# EAGLE library part ARDUINO_DUE_SHIELD_SIMPLE (library m1dst)
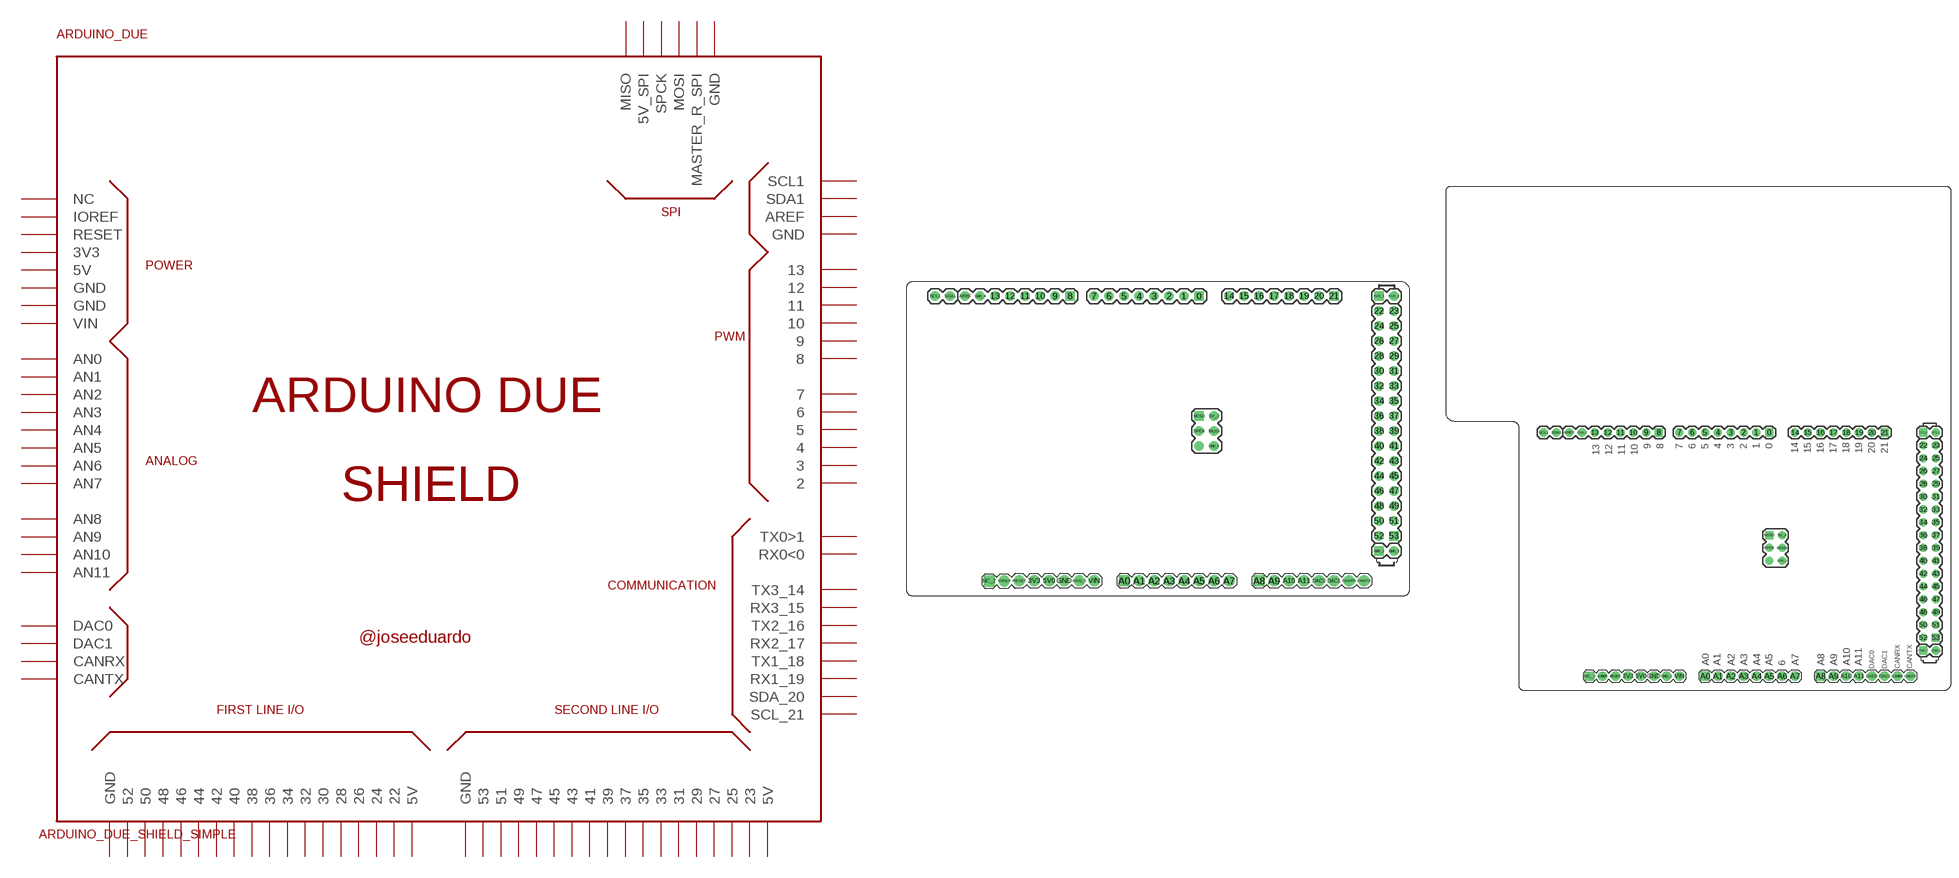
[diagram p3: symbol with the pads of ARDUINO_DUE_SHIELD_SIMPLE; footprints ARDUINO_DUE_SHIELD_SIMPLE, ARDUINO_DUE_SHIELD_SIMPLE_100MM]

Designator prefix ARDUINO_DUE

## ARDUINO_DUE_SHIELD_SIMPLE  [ARDUINO_DUE_SHIELD_SIMPLE]
0  RX0<0
1  TX0>1
2  2
3  3
3V3  3V3
4  4
5  5
5V0  5V
5V0_1  5V
5V0_2  5V
5V_2  5V_SPI
6  6
7  7
8  8
9  9
10  10
11  11
12  12
13  13
14  TX3_14
15  RX3_15
16  TX2_16
17  RX2_17
18  TX1_18
19  RX1_19
20  SDA_20
21  SCL_21
22  22
23  23
24  24
25  25
26  26
27  27
28  28
29  29
30  30
31  31
32  32
33  33
34  34
35  35
36  36
37  37
38  38
39  39
40  40
41  41
42  42
43  43
44  44
45  45
46  46
47  47
48  48
49  49
50  50
51  51
52  52
53  53
A0  AN0
A1  AN1
A2  AN2
A3  AN3
A4  AN4
A5  AN5
A6  AN6
A7  AN7
A8  AN8
A9  AN9
A10  AN10
A11  AN11
AREF  AREF
CANRX  CANRX
CANTX  CANTX
DAC0  DAC0
DAC1  DAC1
GND  GND
GND_1  GND
GND_2  GND
GND_3  GND
GND_4  GND
GND_5  GND
IOREF  IOREF
MASTER_RESET_SPI  MASTER_R_SPI
MISO  MISO
MOSI  MOSI
NC_2  NC  nc
RESET  RESET
SCL1  SCL1
SDA1  SDA1
SPCK  SPCK
VIN  VIN

## ARDUINO_DUE_SHIELD_SIMPLE100MM  [ARDUINO_DUE_SHIELD_SIMPLE_100MM]
Pads as for ARDUINO_DUE_SHIELD_SIMPLE

## ARDUINO_DUE_SHIELD_SIMPLETALL  [ARDUINO_DUE_SHIELD_SIMPLE_TALL]
Pads as for ARDUINO_DUE_SHIELD_SIMPLE

## Footprint ARDUINO_DUE_SHIELD_SIMPLE (pad centres in mm)
drill 1.067 square: 0 64.008,51.181; 5V0_1 94.488,51.181; 8 42.164,51.181; 21 86.868,51.181; 53 97.028,10.541; GND_2 94.488,8.001; MISO 64.008,30.861
drill 1.067: 1 61.468,51.181; 2 58.928,51.181; 3 56.388,51.181; 4 53.848,51.181; 5 51.308,51.181; 5V0_2 97.028,51.181; 5V_2 66.548,30.861; 6 48.768,51.181; 7 46.228,51.181; 9 39.624,51.181; 10 37.084,51.181; 11 34.544,51.181; 12 32.004,51.181; 13 29.464,51.181; 14 69.088,51.181; 15 71.628,51.181; 16 74.168,51.181; 17 76.708,51.181; 18 79.248,51.181; 19 81.788,51.181; 20 84.328,51.181; 22 94.488,48.641; 23 97.028,48.641; 24 94.488,46.101; 25 97.028,46.101; 26 94.488,43.561; 27 97.028,43.561; 28 94.488,41.021; 29 97.028,41.021; 30 94.488,38.481; 31 97.028,38.481; 32 94.488,35.941; 33 97.028,35.941; 34 94.488,33.401; 35 97.028,33.401; 36 94.488,30.861; 37 97.028,30.861; 38 94.488,28.321; 39 97.028,28.321; 40 94.488,25.781; 41 97.028,25.781; 42 94.488,23.241; 43 97.028,23.241; 44 94.488,20.701; 45 97.028,20.701; 46 94.488,18.161; 47 97.028,18.161; 48 94.488,15.621; 49 97.028,15.621; 50 94.488,13.081; 51 97.028,13.081; 52 94.488,10.541; AREF 24.384,51.181; GND_3 97.028,8.001; GND_4 26.924,51.181; GND_5 66.548,25.781; MASTER_RESET_SPI 64.008,25.781; MOSI 66.548,28.321; SCL1 19.304,51.181; SDA1 21.844,51.181; SPCK 64.008,28.321
drill 1.016 pad 1.88: 3V3 36.068,2.921; 5V0 38.608,2.921; A1 53.848,2.921; A2 56.388,2.921; A3 58.928,2.921; A4 61.468,2.921; A5 64.008,2.921; A6 66.548,2.921; A7 69.088,2.921; A9 76.708,2.921; A10 79.248,2.921; A11 81.788,2.921; CANRX 89.408,2.921; CANTX 91.948,2.921; DAC0 84.328,2.921; DAC1 86.868,2.921; GND 41.148,2.921; GND_1 43.688,2.921; IOREF 30.981,2.908; RESET 33.528,2.92; VIN 46.228,2.921
drill 1.016 pad 1.88 square: A0 51.308,2.921; A8 74.168,2.921; NC_2 28.441,2.908

## Footprint ARDUINO_DUE_SHIELD_SIMPLE_100MM (pad centres in mm)
drill 1.067 square: 0 64.008,51.181; 5V0_1 94.488,51.181; 8 42.164,51.181; 21 86.868,51.181; 53 97.028,10.541; GND_2 94.488,8.001; MISO 64.008,30.861
drill 1.067: 1 61.468,51.181; 2 58.928,51.181; 3 56.388,51.181; 4 53.848,51.181; 5 51.308,51.181; 5V0_2 97.028,51.181; 5V_2 66.548,30.861; 6 48.768,51.181; 7 46.228,51.181; 9 39.624,51.181; 10 37.084,51.181; 11 34.544,51.181; 12 32.004,51.181; 13 29.464,51.181; 14 69.088,51.181; 15 71.628,51.181; 16 74.168,51.181; 17 76.708,51.181; 18 79.248,51.181; 19 81.788,51.181; 20 84.328,51.181; 22 94.488,48.641; 23 97.028,48.641; 24 94.488,46.101; 25 97.028,46.101; 26 94.488,43.561; 27 97.028,43.561; 28 94.488,41.021; 29 97.028,41.021; 30 94.488,38.481; 31 97.028,38.481; 32 94.488,35.941; 33 97.028,35.941; 34 94.488,33.401; 35 97.028,33.401; 36 94.488,30.861; 37 97.028,30.861; 38 94.488,28.321; 39 97.028,28.321; 40 94.488,25.781; 41 97.028,25.781; 42 94.488,23.241; 43 97.028,23.241; 44 94.488,20.701; 45 97.028,20.701; 46 94.488,18.161; 47 97.028,18.161; 48 94.488,15.621; 49 97.028,15.621; 50 94.488,13.081; 51 97.028,13.081; 52 94.488,10.541; AREF 24.384,51.181; GND_3 97.028,8.001; GND_4 26.924,51.181; GND_5 66.548,25.781; MASTER_RESET_SPI 64.008,25.781; MOSI 66.548,28.321; SCL1 19.304,51.181; SDA1 21.844,51.181; SPCK 64.008,28.321
drill 1.016 pad 1.88: 3V3 36.068,2.921; 5V0 38.608,2.921; A1 53.848,2.921; A2 56.388,2.921; A3 58.928,2.921; A4 61.468,2.921; A5 64.008,2.921; A6 66.548,2.921; A7 69.088,2.921; A9 76.708,2.921; A10 79.248,2.921; A11 81.788,2.921; CANRX 89.408,2.921; CANTX 91.948,2.921; DAC0 84.328,2.921; DAC1 86.868,2.921; GND 41.148,2.921; GND_1 43.688,2.921; IOREF 30.981,2.908; RESET 33.528,2.92; VIN 46.228,2.921
drill 1.016 pad 1.88 square: A0 51.308,2.921; A8 74.168,2.921; NC_2 28.441,2.908

## Footprint ARDUINO_DUE_SHIELD_SIMPLE_TALL (pad centres in mm)
drill 1.067 square: 0 64.008,51.181; 5V0_1 94.488,51.181; 8 42.164,51.181; 21 86.868,51.181; 53 97.028,10.541; GND_2 94.488,8.001; MISO 64.008,30.861
drill 1.067: 1 61.468,51.181; 2 58.928,51.181; 3 56.388,51.181; 4 53.848,51.181; 5 51.308,51.181; 5V0_2 97.028,51.181; 5V_2 66.548,30.861; 6 48.768,51.181; 7 46.228,51.181; 9 39.624,51.181; 10 37.084,51.181; 11 34.544,51.181; 12 32.004,51.181; 13 29.464,51.181; 14 69.088,51.181; 15 71.628,51.181; 16 74.168,51.181; 17 76.708,51.181; 18 79.248,51.181; 19 81.788,51.181; 20 84.328,51.181; 22 94.488,48.641; 23 97.028,48.641; 24 94.488,46.101; 25 97.028,46.101; 26 94.488,43.561; 27 97.028,43.561; 28 94.488,41.021; 29 97.028,41.021; 30 94.488,38.481; 31 97.028,38.481; 32 94.488,35.941; 33 97.028,35.941; 34 94.488,33.401; 35 97.028,33.401; 36 94.488,30.861; 37 97.028,30.861; 38 94.488,28.321; 39 97.028,28.321; 40 94.488,25.781; 41 97.028,25.781; 42 94.488,23.241; 43 97.028,23.241; 44 94.488,20.701; 45 97.028,20.701; 46 94.488,18.161; 47 97.028,18.161; 48 94.488,15.621; 49 97.028,15.621; 50 94.488,13.081; 51 97.028,13.081; 52 94.488,10.541; AREF 24.384,51.181; GND_3 97.028,8.001; GND_4 26.924,51.181; GND_5 66.548,25.781; MASTER_RESET_SPI 64.008,25.781; MOSI 66.548,28.321; SCL1 19.304,51.181; SDA1 21.844,51.181; SPCK 64.008,28.321
drill 1.016 pad 1.88: 3V3 36.068,2.921; 5V0 38.608,2.921; A1 53.848,2.921; A2 56.388,2.921; A3 58.928,2.921; A4 61.468,2.921; A5 64.008,2.921; A6 66.548,2.921; A7 69.088,2.921; A9 76.708,2.921; A10 79.248,2.921; A11 81.788,2.921; CANRX 89.408,2.921; CANTX 91.948,2.921; DAC0 84.328,2.921; DAC1 86.868,2.921; GND 41.148,2.921; GND_1 43.688,2.921; IOREF 30.981,2.908; RESET 33.528,2.92; VIN 46.228,2.921
drill 1.016 pad 1.88 square: A0 51.308,2.921; A8 74.168,2.921; NC_2 28.441,2.908